# Altium footprint library SSQ-106-03-T-S.PcbLib: 1 footprints
Each footprint in its own frame and in the unit in brackets; x right, y up, seen from the top. Pads: shape width x height; smd on the part's side, far side on the other; paste and mask are expansions set on the pad; w line width, h text height; cw(c..) or ccw(c..) is an arc to the next point about the centre after c.
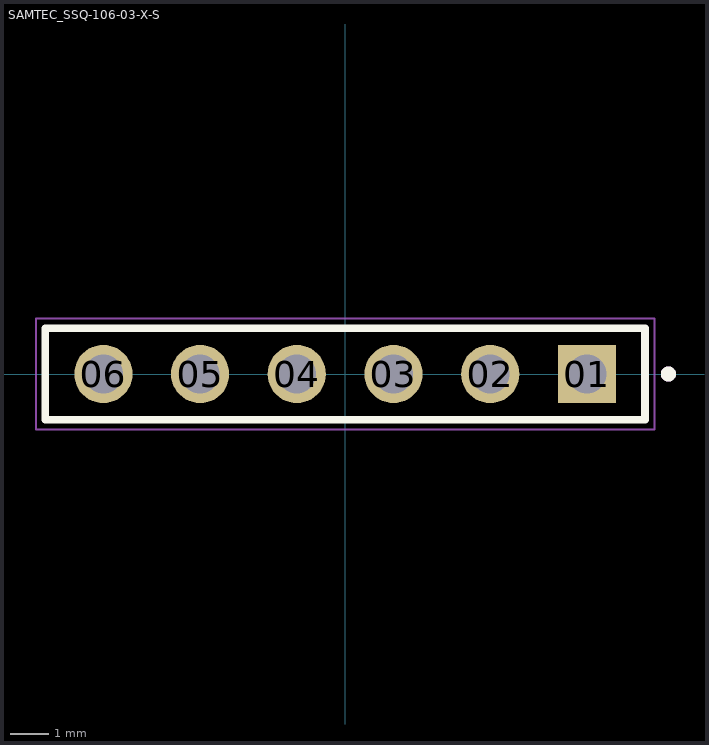
[diagram p0: the footprint, top view; thin cyan lines are the x and y axes]

## SAMTEC_SSQ-106-03-X-S [mm]
pads (6):
  rect 1.53x1.53 hole 1.02: 01(6.35,0)
  round 1.53 hole 1.02: 02(3.81,0) 03(1.27,0) 04(-1.27,0) 05(-3.81,0) 06(-6.35,0)
Top Overlay:
  circle w0.2: c8.49,0 r0.1
  lines w0.2: -7.875,-1.205 7.875,-1.205 7.875,1.205 -7.875,1.205 -7.875,-1.205
Mechanical 13:
  circle w0.2: c8.49,0 r0.1
  lines w0.1: -7.875,-1.205 7.875,-1.205 7.875,1.205 -7.875,1.205 -7.875,-1.205
Mechanical 15:
  lines w0.05: -8.125,-1.455 8.125,-1.455 8.125,1.455 -8.125,1.455 -8.125,-1.455